# EAGLE library part M80-54010 (library BrownSpaceEngineering)
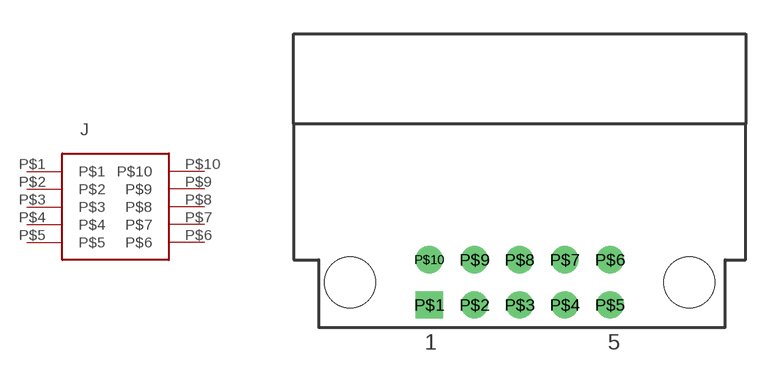
[diagram p21: symbol with the pads of M80-54010; footprint M80-54010]

Designator prefix J

## M80-54010  [M80-54010]
P$1  P$1
P$2  P$2
P$3  P$3
P$4  P$4
P$5  P$5
P$6  P$6
P$7  P$7
P$8  P$8
P$9  P$9
P$10  P$10

## Footprint M80-54010 (pad centres in mm)
drill 0.7 square: P$1 0,0
drill 0.7: P$2 2,0; P$3 4,0; P$4 6,0; P$5 8,0; P$6 8,2; P$7 6,2; P$8 4,2; P$9 2,2; P$10 0,2
hole 2.25 at -3.5,1
hole 2.25 at 11.5,1